# Altium integrated library Header_6.IntLib: 1 symbol
Pins are listed as number, name and electrical type; pins without a type are passive.

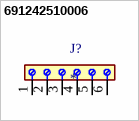
[diagram p0: symbol 691242510006]

## 691242510006
designator J?
6 Position Wire to Board Terminal Block Horizontal with Board 0.200 (5.08mm) Through Hole; MF: WÃ¼rth Elektronik; MP: 691242510006; SnapEDA_Link: https://www.snapeda.com/parts/691242510006/W%25C3%25BCrth+Elektronik+Midcom/view-part/?ref=snap; Package: None; Value: *; Check_prices: https://www.snapeda.com/parts/691242510006/W%25C3%25BCrth+Elektronik+Midcom/view-part/?ref=eda
footprint 691242510006
pins: 1, 2, 3, 4, 5, 6